# Altium integrated library LED_SEQUENCER.IntLib: 9 symbols
Pins are listed as number, name and electrical type; pins without a type are passive.

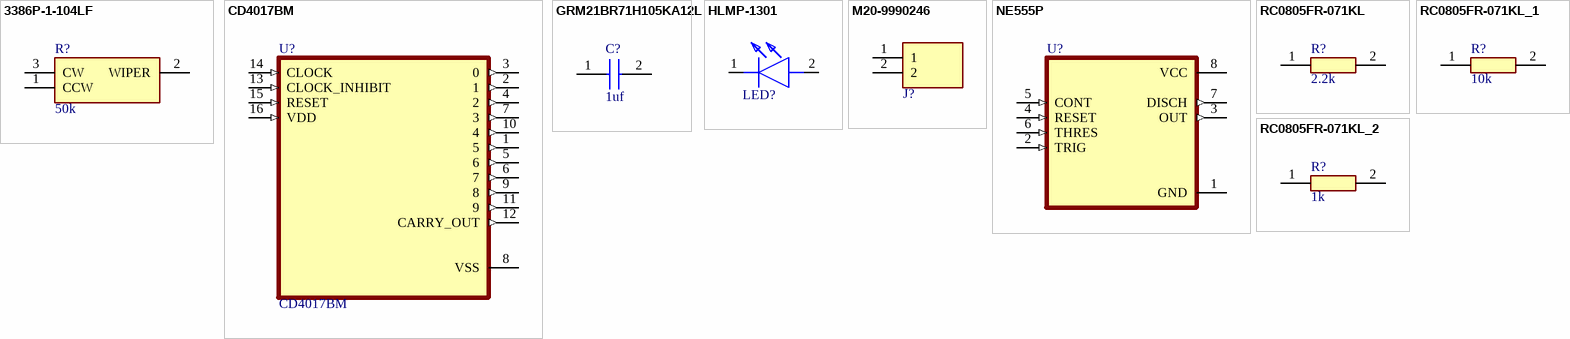
[diagram p0: symbols 3386P-1-104LF to RC0805FR-071KL_2]

## 3386P-1-104LF
designator R?, comment 50k
Variable Resistor; Manufacturer_Name: Bourns; Manufacturer_Part_Number: 3386P-1-104LF; Datasheet Link: https://componentsearchengine.com/Datasheets/2/3386P-1-104LF.pdf; Mouser Part Number: 652-3386P-1-104LF; Mouser Price/Stock: https://www.mouser.co.uk/ProductDetail/Bourns/3386P-1-104LF?qs=m2uG%2FFdTAPVt57WUqvIChw%3D%3D; Arrow Part Number: 3386P-1-104LF; Arrow Price/Stock: https://www.arrow.com/en/products/3386p-1-104lf/bourns?region=nac
footprint 3386P_1
pins: 1 CCW, 2 WIPER, 3 CW

## CD4017BM
designator U?
CMOS Decade Counter with 10 Decoded Outputs; MF: Texas Instruments; Check_prices: https://www.snapeda.com/parts/CD4017BM/Texas+Instruments/view-part/?ref=eda; Value: *; Availability: In Stock; MP: CD4017BM; Price: None; Package: SOIC-16 Texas Instruments; SnapEDA_Link: https://www.snapeda.com/parts/CD4017BM/Texas+Instruments/view-part/?ref=snap; Purchase-URL: https://pricing.snapeda.com/search/part/CD4017BM/?ref=eda
footprint SOIC127P600X175-16N
pins: 1 5 (out), 2 1 (out), 3 0 (out), 4 2 (out), 5 6 (out), 6 7 (out), 7 3 (out), 8 VSS (power), 9 8 (out), 10 4 (out), 11 9 (out), 12 CARRY_OUT (out), 13 CLOCK_INHIBIT (in), 14 CLOCK (in), 15 RESET (in), 16 VDD (in)

## GRM21BR71H105KA12L
designator C?, comment 1uf
Capacitor; Manufacturer_Name: Murata Electronics; Manufacturer_Part_Number: GRM21BR71H105KA12L; Datasheet Link: http://www.murata.com/~/media/webrenewal/support/library/catalog/products/capacitor/mlcc/c02e.pdf; Height: 1.45mm; Mouser Part Number: 81-GRM21BR71H105KA2L; Mouser Price/Stock: https://www.mouser.co.uk/ProductDetail/Murata-Electronics/GRM21BR71H105KA12L?qs=Er06SXQpt%252B60EIT%2FJ7%2F41Q%3D%3D; Arrow Part Number: GRM21BR71H105KA12L; Arrow Price/Stock: https://www.arrow.com/en/products/grm21br71h105ka12l/murata-manufacturing?region=europe
footprint CAPC2012X145N
pins: 1, 2

## HLMP-1301
designator LED?  (value not drawn)
LED; Manufacturer_Name: Avago Technologies; Datasheet Link: https://componentsearchengine.com/Datasheets/2/HLMP-1301.pdf; Height: 6.35mm; Manufacturer_Part_Number: HLMP-1301; Mouser Part Number: 630-HLMP-1301; Mouser Price/Stock: https://www.mouser.co.uk/ProductDetail/Broadcom-Avago/HLMP-1301?qs=jT9z6tsiFNkJAuA0Y2YdzA%3D%3D; Arrow Part Number: HLMP-1301; Arrow Price/Stock: https://www.arrow.com/en/products/hlmp-1301/broadcom-limited
footprint HLMP1301
pins: 1 K, 2 A

## M20-9990246
designator J?  (value not drawn)
Connector; Manufacturer_Name: Harwin; Datasheet Link: https://cdn.harwin.com/pdfs/M20-999.pdf; Height: 8.74mm; Manufacturer_Part_Number: M20-9990246; Mouser Part Number: 855-M20-9990246; Mouser Price/Stock: https://www.mouser.co.uk/ProductDetail/Harwin/M20-9990246?qs=Jph8NoUxIfWjw4WmyRvzag%3D%3D
footprint HDRV2W66P0X254_1X2_508X254X874P
pins: 1, 2

## NE555P
designator U?
MP: NE555P; Package: None; Price: None; Value: *; Availability: Unavailable
footprint DIP794W45P254L959H508Q8
pins: 1 GND (power), 2 TRIG (in), 3 OUT (out), 4 RESET (in), 5 CONT (in), 6 THRES (in), 7 DISCH (out), 8 VCC (power)

## RC0805FR-071KL
designator R?, comment 2.2k
Resistor; Manufacturer_Name: KEMET; Manufacturer_Part_Number: RC0805FR-071KL; Datasheet Link: http://www.yageo.com/documents/recent/PYu-RC_Group_51_RoHS_L_10.pdf; Height: 0.6mm; Mouser Part Number: 603-RC0805FR-071KL; Mouser Price/Stock: https://www.mouser.co.uk/ProductDetail/YAGEO/RC0805FR-071KL?qs=1ogmaHw32WJjeGY0DHXakQ%3D%3D; Arrow Part Number: RC0805FR-071KL; Arrow Price/Stock: https://www.arrow.com/en/products/rc0805fr-071kl/yageo?region=nac
footprint RESC2012X60N
pins: 1, 2

## RC0805FR-071KL_1
designator R?, comment 10k
Resistor; Manufacturer_Name: KEMET; Manufacturer_Part_Number: RC0805FR-071KL; Datasheet Link: http://www.yageo.com/documents/recent/PYu-RC_Group_51_RoHS_L_10.pdf; Height: 0.6mm; Mouser Part Number: 603-RC0805FR-071KL; Mouser Price/Stock: https://www.mouser.co.uk/ProductDetail/YAGEO/RC0805FR-071KL?qs=1ogmaHw32WJjeGY0DHXakQ%3D%3D; Arrow Part Number: RC0805FR-071KL; Arrow Price/Stock: https://www.arrow.com/en/products/rc0805fr-071kl/yageo?region=nac
footprint RESC2012X60N
pins: 1, 2

## RC0805FR-071KL_2
designator R?, comment 1k
Resistor; Manufacturer_Name: KEMET; Manufacturer_Part_Number: RC0805FR-071KL; Datasheet Link: http://www.yageo.com/documents/recent/PYu-RC_Group_51_RoHS_L_10.pdf; Height: 0.6mm; Mouser Part Number: 603-RC0805FR-071KL; Mouser Price/Stock: https://www.mouser.co.uk/ProductDetail/YAGEO/RC0805FR-071KL?qs=1ogmaHw32WJjeGY0DHXakQ%3D%3D; Arrow Part Number: RC0805FR-071KL; Arrow Price/Stock: https://www.arrow.com/en/products/rc0805fr-071kl/yageo?region=nac
footprint RESC2012X60N
pins: 1, 2